# EAGLE library part DS1394U-33+ (library DS1394U-33+ RTC SPI Module)
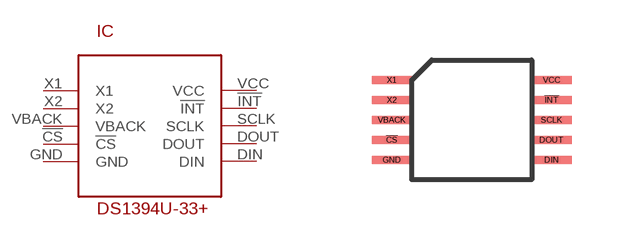
[diagram p0: symbol with the pads of 10UMAX; footprint 10UMAX]

Designator prefix IC

## DS1394U-33+  [10UMAX]
!CS!  !CS!
!INT!  !INT!
DIN  DIN
DOUT  DOUT
GND  GND
SCLK  SCLK
VBACK  VBACK
VCC  VCC
X1  X1
X2  X2

## Footprint 10UMAX (pad centres in mm)
smd 1 x 0.2: !CS! -2,-0.5; !INT! 2,0.5; DIN 2,-1; DOUT 2,-0.5; GND -2,-1; SCLK 2,0; VBACK -2,0; VCC 2,1; X1 -2,1; X2 -2,0.5